# Altium footprint library STM32CoreBoard.PcbLib: 20 footprints (part 1 of 2)
Each footprint in its own frame and in the unit in brackets; x right, y up, seen from the top. Pads: shape width x height; smd on the part's side, far side on the other; paste and mask are expansions set on the pad; w line width, h text height; cw(c..) or ccw(c..) is an arc to the next point about the centre after c.
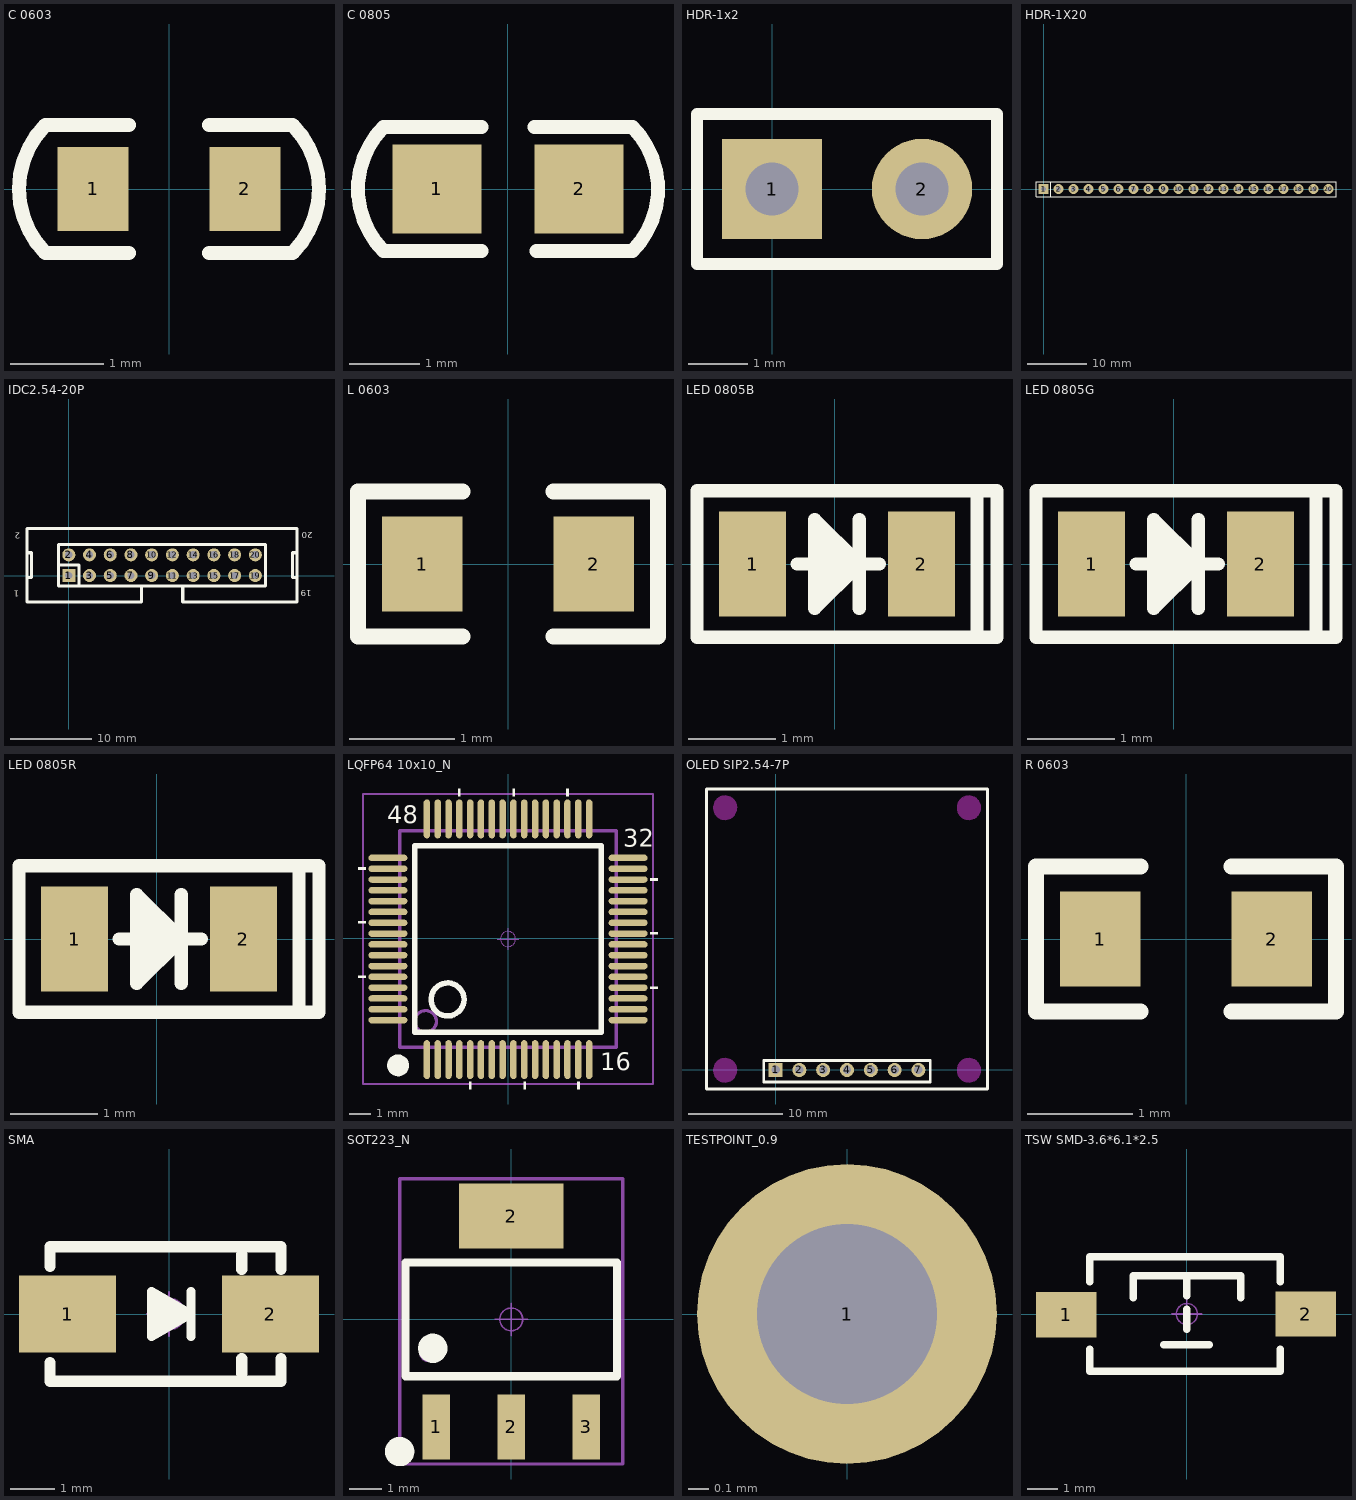
[diagram p0: the footprints below, top view; thin cyan lines are the x and y axes]

## C 0603 [mm]
pads (2):
  rect 0.762x0.9 smd: 1(-0.813,0) 2(0.813,0)
Top Overlay:
  lines w0.152: -0.432,-0.686 -1.321,-0.686 cw(c-0.635,0) -1.321,0.686 -0.432,0.686 ; 0.432,-0.686 1.321,-0.686 ccw(c0.635,0) 1.321,0.686 0.432,0.686
3D body: height 0.3, standoff 0, extent -0.8,-0.4 0.8,0.4

## C 0805 [mm]
pads (2):
  rrect0% 1.27x1.27 smd: 1(-1.016,0) 2(1.016,0)
Top Overlay:
  lines w0.2: -0.381,-0.889 -1.778,-0.889 cw(c-0.889,0) -1.778,0.889 -0.381,0.889 ; 0.381,0.889 1.778,0.889 cw(c0.889,0) 1.778,-0.889 0.406,-0.889
3D body: height 0.78, standoff 0, extent -1,-0.625 1,0.625

## HDR-1x2 [mm]
pads (2):
  rect 1.7x1.7 hole 0.9: 1(0,0)
  round 1.7 hole 0.9: 2(2.54,0)
Top Overlay:
  lines w0.2: -1.27,-1.27 3.81,-1.27 3.81,1.27 -1.27,1.27 -1.27,-1.27
3D body: height 8.5, standoff -3, extent -1.27,-1.27 1.27,1.27
3D body: height 8.5, standoff -3, extent 1.27,-1.27 3.81,1.27

## HDR-1X20 [mm]
pads (20):
  rect 1.7x1.7 hole 0.9: 1(0,0)
  round 1.7 hole 0.9: 2(2.54,0) 3(5.08,0) 4(7.62,0) 5(10.16,0) 6(12.7,0) 7(15.24,0) 8(17.78,0) 9(20.32,0) 10(22.86,0) 11(25.4,0) 12(27.94,0) 13(30.48,0) 14(33.02,0) 15(35.56,0) 16(38.1,0)
  round 1.7 hole 0.762: 17(40.64,0) 18(43.18,0) 19(45.72,0) 20(48.26,0)
Top Overlay:
  lines w0.2: 1.25,-1.25 1.25,1.25 ; -1.27,-1.27 49.53,-1.27 49.53,1.27 0.635,1.27 -1.27,1.27 -1.27,-1.27
3D body: height 8.5, standoff -3, extent 46.99,-1.27 49.53,1.27
3D body: height 8.5, standoff -3, extent 41.91,-1.27 44.45,1.27
3D body: height 8.5, standoff -3, extent 44.45,-1.27 46.99,1.27
3D body: height 8.5, standoff -3, extent 36.83,-1.27 39.37,1.27
3D body: height 8.5, standoff -3, extent 39.37,-1.27 41.91,1.27
3D body: height 8.5, standoff -3, extent 34.29,-1.27 36.83,1.27
3D body: height 8.5, standoff -3, extent 29.21,-1.27 31.75,1.27
3D body: height 8.5, standoff -3, extent 31.75,-1.27 34.29,1.27
3D body: height 8.5, standoff -3, extent 24.13,-1.27 26.67,1.27
3D body: height 8.5, standoff -3, extent 26.67,-1.27 29.21,1.27
3D body: height 8.5, standoff -3, extent 21.59,-1.27 24.13,1.27
3D body: height 8.5, standoff -3, extent 16.51,-1.27 19.05,1.27
3D body: height 8.5, standoff -3, extent 19.05,-1.27 21.59,1.27
3D body: height 8.5, standoff -3, extent 11.43,-1.27 13.97,1.27
3D body: height 8.5, standoff -3, extent 13.97,-1.27 16.51,1.27
3D body: height 8.5, standoff -3, extent 8.89,-1.27 11.43,1.27
3D body: height 8.5, standoff -3, extent 3.81,-1.27 6.35,1.27
3D body: height 8.5, standoff -3, extent 6.35,-1.27 8.89,1.27
3D body: height 8.5, standoff -3, extent -1.27,-1.27 1.27,1.27
3D body: height 8.5, standoff -3, extent 1.27,-1.27 3.81,1.27

## IDC2.54-20P [mm]
pads (20):
  rect 1.6x1.6 hole 0.9: 1(0,0)
  round 1.6 hole 0.9: 2(0,2.54) 3(2.54,0) 4(2.54,2.54) 5(5.08,0) 6(5.08,2.54) 7(7.62,0) 8(7.62,2.54) 9(10.16,0) 10(10.16,2.54) 11(12.7,0) 12(12.7,2.54) 13(15.24,0) 14(15.24,2.54) 15(17.78,0) 16(17.78,2.54) 17(20.32,0) 18(20.32,2.54) 19(22.86,0) 20(22.86,2.54)
Top Overlay:
  lines w0.381: -5.11,-0.254 -4.572,-0.254 -4.572,2.794 -5.08,2.794 ; -1.27,1.27 1.27,1.27 1.27,-1.27 ; 8.89,-1.27 8.89,-3.23 -5.11,-3.23 -5.11,5.77 27.97,5.77 27.97,-3.23 13.97,-3.23 13.97,-1.27 ; 27.94,-0.254 27.432,-0.254 27.432,2.794 27.97,2.794 ; -1.27,-1.27 24.13,-1.27 24.13,3.81 -1.27,3.81 -1.27,-1.27
  text "19" at 29.75,-1.8 h0.76
  text "20" at 29.9,5.3 h0.76
  text "1" at -6.1,-1.85 h0.76
  text "2" at -5.95,5.25 h0.76
Bottom Overlay:
  lines w0.6: -1.041,1.27 23.5,1.27 ; 1.27,-0.813 1.27,3.556 ; 3.81,-0.813 3.81,3.556 ; 6.35,-0.813 6.35,3.556 ; 8.89,-0.813 8.89,3.556 ; 11.43,-0.813 11.43,3.556 ; 13.97,-0.813 13.97,3.556 ; 16.51,-0.813 16.51,3.556 ; 19.05,-0.813 19.05,3.556 ; 21.59,-0.813 21.59,3.556
3D body: height 9.17, standoff -3, extent -5.08,-3.08 27.94,5.77

## L 0603 [mil]
pads (2):
  rect 30x35.43 smd: 1(-32,0) 2(32,0)
Top Overlay:
  lines w6: -17,-27 -56,-27 -56,27 -17,27 ; 17,-27 56,-27 56,27 17,27
3D body: height 30.75, standoff -0.75, extent -31.49,-17.73 31.5,17.71

## LED 0805B [mil]
pads (2):
  rect 30x47.24 smd: 1(-37,0) 2(39,0)
Top Overlay:
  lines w6: -17,0 20,0 1,0 ; -4,-15 -4,15 ; 1,-10 1,10 ; 6,-5 6,5 ; 11,-20 11,20 ; 64,-33 64,33 ; -62,-33 -62,33 73,33 73,-33 -62,-33 ; -9,-20 11,0 -9,20 -9,-20
3D body: height 26.31, standoff -0.16, extent -38.37,-25 40.37,24.29
3D body: height 31.69, standoff 12.01, extent -27.49,-25 31.49,24.29

## LED 0805G [mil]
pads (2):
  rect 30x47.24 smd: 1(-37,0) 2(39,0)
Top Overlay:
  lines w6: -17,0 20,0 1,0 ; -4,-15 -4,15 ; 1,-10 1,10 ; 6,-5 6,5 ; 11,-20 11,20 ; 64,-33 64,33 ; -62,-33 73,-33 73,33 -62,33 -62,-33 ; -9,-20 -9,20 11,0 -9,-20
3D body: height 26.31, standoff -0.16, extent -37.31,-24.23 41.43,25.06
3D body: height 31.69, standoff 12.01, extent -28.49,-24.29 30.49,25

## LED 0805R [mil]
pads (2):
  rect 30x47.24 smd: 1(-37,0) 2(39,0)
Top Overlay:
  lines w6: -17,0 20,0 1,0 ; -4,-15 -4,15 ; 1,-10 1,10 ; 6,-5 6,5 ; 11,-20 11,20 ; 64,-33 64,33 ; -62,-33 73,-33 73,33 -62,33 -62,-33 ; -9,-20 -9,20 11,0 -9,-20
3D body: height 26.31, standoff -0.16, extent -38.37,-24.29 40.37,25
3D body: height 31.69, standoff 12.01, extent -28,-24 30.98,25.29

## LQFP64 10x10_N [mm]
pads (64):
  oval 0.3x1.8 smd: 1(-3.75,-5.601) 2(-3.25,-5.601) 3(-2.75,-5.601) 4(-2.25,-5.601) 5(-1.75,-5.601) 6(-1.25,-5.601) 7(-0.75,-5.601) 8(-0.25,-5.601) 9(0.25,-5.601) 10(0.75,-5.601) 11(1.25,-5.601) 12(1.75,-5.601) 13(2.25,-5.601) 14(2.75,-5.601) 15(3.25,-5.601) 16(3.75,-5.601) 33(3.75,5.525) 34(3.25,5.525) 35(2.75,5.525) 36(2.25,5.525) 37(1.75,5.525) 38(1.25,5.525) 39(0.75,5.525) 40(0.25,5.525) 41(-0.25,5.525) 42(-0.75,5.525) 43(-1.25,5.525) 44(-1.75,5.525) 45(-2.25,5.525) 46(-2.75,5.525) 47(-3.25,5.525) 48(-3.75,5.525)
  oval 1.8x0.3 smd: 17(5.55,-3.775) 18(5.55,-3.275) 19(5.55,-2.775) 20(5.55,-2.275) 21(5.55,-1.775) 22(5.55,-1.275) 23(5.55,-0.775) 24(5.55,-0.275) 25(5.55,0.225) 26(5.55,0.725) 27(5.55,1.225) 28(5.55,1.725) 29(5.55,2.225) 30(5.55,2.725) 31(5.55,3.225) 32(5.55,3.725) 49(-5.55,3.725) 50(-5.55,3.225) 51(-5.55,2.725) 52(-5.55,2.225) 53(-5.55,1.725) 54(-5.55,1.225) 55(-5.55,0.725) 56(-5.55,0.225) 57(-5.55,-0.275) 58(-5.55,-0.775) 59(-5.55,-1.275) 60(-5.55,-1.775) 61(-5.55,-2.275) 62(-5.55,-2.775) 63(-5.55,-3.275) 64(-5.55,-3.775)
Top Overlay:
  circle w0.508: c-5.08,-5.867 r0.25
  circle w0.254: c-2.794,-2.819 r0.762
  region: -1.676,-6.985 -1.676,-6.604 -1.803,-6.604 -1.803,-6.985
  region: 0.838,-6.985 0.838,-6.604 0.711,-6.604 0.711,-6.985
  region: 3.327,-6.985 3.327,-6.604 3.2,-6.604 3.2,-6.985
  region: 2.819,6.553 2.819,6.934 2.692,6.934 2.692,6.553
  region: 0.33,6.553 0.33,6.934 0.203,6.934 0.203,6.553
  region: -2.184,6.553 -2.184,6.934 -2.311,6.934 -2.311,6.553
  region: 6.934,2.794 6.553,2.794 6.553,2.667 6.934,2.667
  region: 6.934,0.305 6.553,0.305 6.553,0.178 6.934,0.178
  region: 6.934,-2.21 6.553,-2.21 6.553,-2.337 6.934,-2.337
  region: -6.553,3.302 -6.934,3.302 -6.934,3.175 -6.553,3.175
  region: -6.553,0.813 -6.934,0.813 -6.934,0.686 -6.553,0.686
  region: -6.553,-1.702 -6.934,-1.702 -6.934,-1.829 -6.553,-1.829
  lines w0.254: -4.318,-4.343 4.318,-4.343 4.318,4.293 -4.318,4.293 -4.318,-4.343
  text "48" at -5.588,5.334 h0.81
  text "32" at 5.334,4.242 h0.81
  text "16" at 4.267,-6.096 h0.81
Mechanical 13:
  circle w0.15: c-3.81,-3.835 r0.5
  lines w0.15: -5,-5.025 5,-5.025 5,4.975 -5,4.975 -5,-5.025
Mechanical 15:
  circle w0.05: c0,-0.025 r0.35
  lines w0.05: -0.5,-0.025 0.5,-0.025 ; 0,-0.525 0,0.475
  lines w0.1: -6.7,-6.725 -6.7,6.675 6.7,6.675 6.7,-6.725 -6.7,-6.725
3D body: height 1.45, standoff -0.01, extent -6.003,-6.028 6.003,5.977

## OLED SIP2.54-7P [mm]
pads (7):
  rect 1.5x1.5 hole 0.9: 1(0,0)
  round 1.5 hole 0.9: 2(2.54,0) 3(5.08,0) 4(7.62,0) 5(10.16,0) 6(12.7,0) 7(15.24,0)
Top Overlay:
  lines w0.3: -7.38,-2.032 -7.38,29.968 22.62,29.968 22.62,-2.032 -7.38,-2.032 ; -1.27,-1.27 -1.27,1.016 16.51,1.016 16.51,-1.27 -1.27,-1.27
Keep-Out Layer:
  circle w0.127: c20.62,27.968 r1.26
  circle w0.127: c-5.38,27.968 r1.26
  circle w0.127: c-5.38,-0.032 r1.26
  circle w0.127: c20.62,-0.032 r1.26
  board cut-out: -5.365,1.235 -5.691,1.192 -5.995,1.066 -6.256,0.866 -6.457,0.605 -6.583,0.301 -6.626,-0.025 -6.615,-0.025 -6.651,-0.031 -6.608,-0.357 -6.482,-0.661 -6.281,-0.922 -6.02,-1.122 -5.716,-1.248 -5.39,-1.291 -5.39,-1.281 -5.38,-1.291 -5.053,-1.248 -4.749,-1.122 -4.488,-0.922 -4.288,-0.661 -4.162,-0.357 -4.119,-0.031 -4.13,-0.031 -4.105,-0.025 -4.104,-0.025 -4.147,0.301 -4.273,0.605 -4.473,0.866 -4.734,1.066 -5.038,1.192
  board cut-out: -5.365,29.226 -5.691,29.183 -5.995,29.057 -6.256,28.857 -6.457,28.596 -6.583,28.292 -6.626,27.965 -6.615,27.965 -6.651,27.96 -6.608,27.634 -6.482,27.33 -6.281,27.069 -6.02,26.868 -5.716,26.742 -5.39,26.699 -5.39,26.71 -5.38,26.699 -5.053,26.742 -4.749,26.868 -4.488,27.069 -4.288,27.33 -4.162,27.634 -4.119,27.96 -4.13,27.96 -4.105,27.965 -4.104,27.965 -4.147,28.292 -4.273,28.596 -4.473,28.857 -4.734,29.057 -5.038,29.183
  board cut-out: 20.645,29.226 20.318,29.183 20.014,29.057 19.753,28.857 19.553,28.596 19.427,28.292 19.384,27.965 19.395,27.965 19.359,27.96 19.402,27.634 19.528,27.33 19.728,27.069 19.989,26.868 20.293,26.742 20.62,26.699 20.62,26.71 20.63,26.699 20.956,26.742 21.26,26.868 21.521,27.069 21.722,27.33 21.848,27.634 21.891,27.96 21.88,27.96 21.905,27.965 21.906,27.965 21.863,28.292 21.737,28.596 21.536,28.857 21.275,29.057 20.971,29.183
  board cut-out: 20.645,1.235 20.318,1.192 20.014,1.066 19.753,0.866 19.553,0.605 19.427,0.301 19.384,-0.025 19.395,-0.025 19.359,-0.031 19.402,-0.357 19.528,-0.661 19.728,-0.922 19.989,-1.122 20.293,-1.248 20.62,-1.291 20.62,-1.281 20.63,-1.291 20.956,-1.248 21.26,-1.122 21.521,-0.922 21.722,-0.661 21.848,-0.357 21.891,-0.031 21.88,-0.031 21.905,-0.025 21.906,-0.025 21.863,0.301 21.737,0.605 21.536,0.866 21.275,1.066 20.971,1.192
3D body: height 8.5, standoff -3, extent -1.27,-1.397 1.27,1.143
3D body: height 8.5, standoff -3, extent 1.27,-1.397 3.81,1.143
3D body: height 8.5, standoff -3, extent 3.81,-1.397 6.35,1.143
3D body: height 8.5, standoff -3, extent 6.35,-1.397 8.89,1.143
3D body: height 8.5, standoff -3, extent 8.89,-1.397 11.43,1.143
3D body: height 8.5, standoff -3, extent 11.43,-1.397 13.97,1.143
3D body: height 8.5, standoff -3, extent 13.97,-1.397 16.51,1.143

## R 0603 [mil]
pads (2):
  rect 30x35.43 smd: 1(-32,0) 2(32,0)
Top Overlay:
  lines w6: -17,-27 -56,-27 -56,27 -17,27 ; 17,-27 56,-27 56,27 17,27
3D body: height 11.89, standoff 0, extent -31.49,-15.75 31.5,15.75

## SMA [mm]
pads (2):
  rect 2.2x1.75 smd: 1(-2.3,0) 2(2.3,0)
Top Overlay:
  lines w0.203: 0.494,-0.508 0.494,0.508 ; -0.395,-0.508 0.494,0 -0.395,0.508 -0.395,-0.508
  lines w0.254: -2.7,-1.105 -2.7,-1.524 2.54,-1.524 2.54,-1.016 ; -2.7,1.08 -2.7,1.524 2.54,1.524 2.54,1.016 ; -0.33,0.305 0.305,0 -0.254,-0.305 -0.254,0.051 0.023,0 ; 1.651,-1.35 1.651,-1.016 ; 1.651,1.016 1.651,1.35
Mechanical 15:
  circle w0.05: c0,0 r0.35
  lines w0.05: -0.5,0 0.5,0 ; 0,-0.5 0,0.5
3D body: height 2.15, standoff 0.04, extent -2.528,-1.3 2.573,1.3

## SOT223_N [mm]
pads (4):
  rect 0.85x2 smd: 1(-2.3,-3.302) 2(0,-3.302) 3(2.3,-3.302)
  rect 3.2x2 smd: 2(0,3.175)
Top Overlay:
  circle w0.5: c-2.413,-0.889 r0.2
  circle w0.5: c-3.429,-4.064 r0.2
  lines w0.25: -3.25,-1.75 -3.25,1.75 3.25,1.75 3.25,-1.75 -3.25,-1.75
Mechanical 13:
  circle w0.1: c-2.536,-1.016 r0.25
  lines w0.1: -3.25,-1.75 3.25,-1.75 3.25,1.75 -3.25,1.75 -3.25,-1.75
Mechanical 15:
  circle w0.05: c0,0 r0.35
  lines w0.05: -0.5,0 0.5,0 ; 0,-0.5 0,0.5
  lines w0.1: -3.429,-4.445 3.429,-4.445 3.429,4.318 -3.429,4.318 -3.429,-4.445
3D body: height 1.65, standoff -0.02, extent -3.25,-3.508 3.25,3.508

## TESTPOINT_0.9 [mm] "测试点"
pads (1):
  round 1.5 hole 0.9: 1(0,0)

## TSW SMD-3.6*6.1*2.5 [mm]
pads (2):
  rect 2x1.5 smd: 1(-3.996,-0.02) 2(3.937,0)
Top Overlay:
  lines w0.254: -3.212,-1.168 -3.212,-1.9 3.088,-1.9 3.088,-1.168 ; -3.212,1.067 -3.212,1.9 3.088,1.9 3.088,1.067 ; -1.778,0.533 -1.778,1.27 1.778,1.27 1.778,0.533 ; -0.762,-1.016 0.737,-1.016 ; 0,-0.508 0,0.152 ; 0,0.61 0,1.27
Mechanical 15:
  circle w0.05: c0,0 r0.35
  lines w0.05: -0.5,0 0.5,0 ; 0,-0.5 0,0.5
3D body: height 2.59, standoff -0.03, extent -4,-1.877 4,1.623